# Altium integrated library DC-005-5A-2.0.IntLib: 1 symbol
Pins are listed as number, name and electrical type; pins without a type are passive.

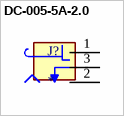
[diagram p0: symbol DC-005-5A-2.0]

## DC-005-5A-2.0
designator J?
DC Power Receptacle Jack, Through Holeï¼ŒRight Angle; MF: XKB Industrial Precision; MP: DC-005-5A-2.0; SnapEDA_Link: https://www.snapeda.com/parts/DC-005-5A-2.0/XKB+Industrial+Precision/view-part/?ref=snap; Package: Package; Value: *; Check_prices: https://www.snapeda.com/parts/DC-005-5A-2.0/XKB+Industrial+Precision/view-part/?ref=eda
footprint XKB_DC-005-5A-2.0
pins: 1, 2, 3